# Altium footprint library Switches&Relays.PcbLib: 8 footprints
Each footprint in its own frame and in the unit in brackets; x right, y up, seen from the top. Pads: shape width x height; smd on the part's side, far side on the other; paste and mask are expansions set on the pad; w line width, h text height; cw(c..) or ccw(c..) is an arc to the next point about the centre after c.
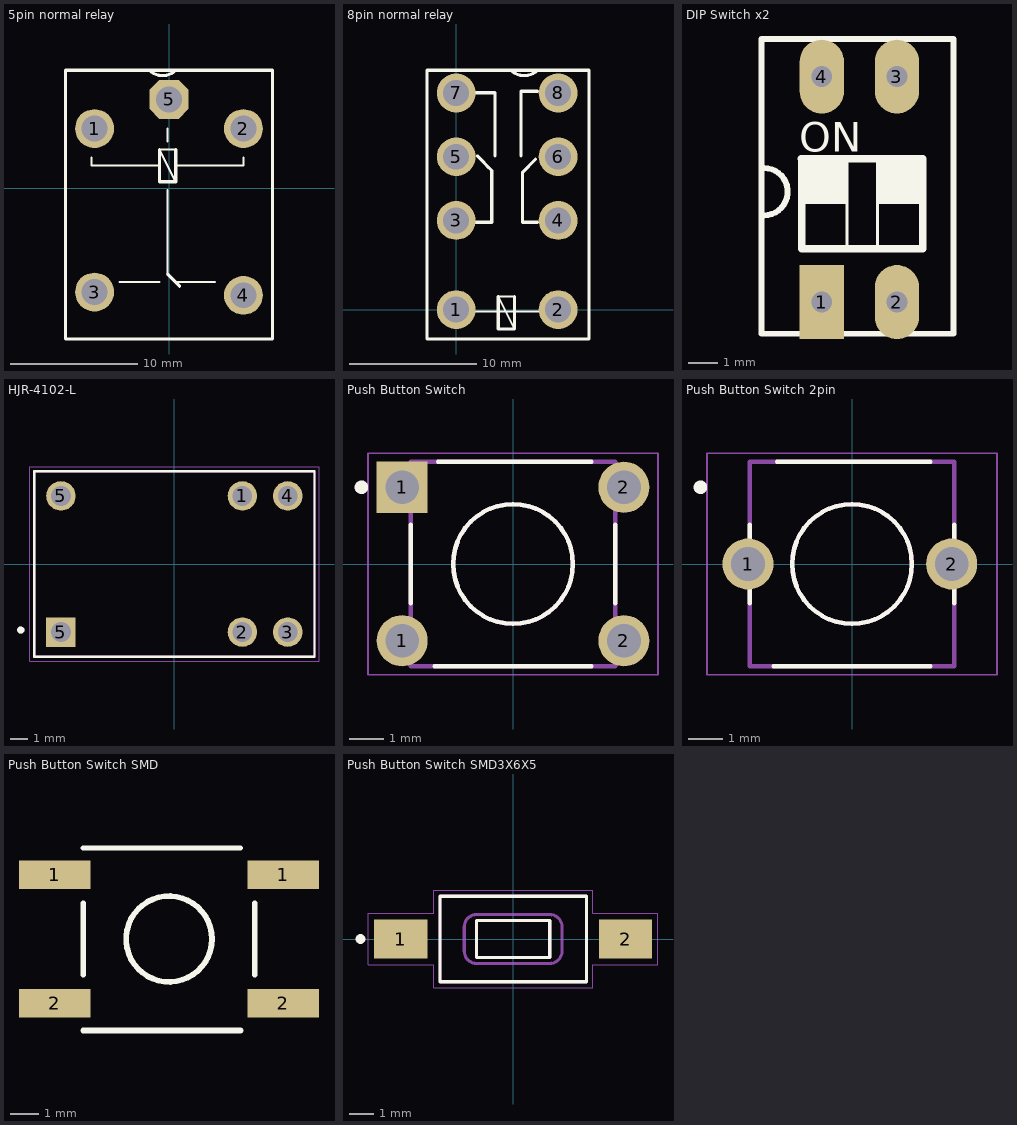
[diagram p0: the footprints below, top view; thin cyan lines are the x and y axes]

## 5pin normal relay [mil]
pads (5):
  round 120 hole 80: 1(-230.5,184.5) 2(229.5,184.5) 3(-230.5,-320.5) 4(229.5,-330.5)
  oct 120x120 hole 80: 5(-0.5,274.5)
Top Overlay:
  lines w6: -240,95.09 -240,70.09 -30,70.09 ; -153,-289.91 -30,-289.91 ; -5,-264.91 -5,-4.91 ; -5,145.09 -5,185.09 ; 20,-289.91 142,-289.91 ; 20,20.09 -30,120.09 20,120.09 ; 20,70.09 230,70.09 230,95.09
  lines w10: -60.5,364.5 ccw(c-20.5,404.5) 19.5,364.5 ; -30,120.09 -30,70.09 -30,20.09 20,20.09 20,70.09 20,120.09 ; -5,-264.91 20,-289.91 32,-302.91 ; -320.5,-465.5 -320.5,364.5 319.5,364.5 319.5,-465.5 -320.5,-465.5
3D body: height 669.29, standoff 78.74, extent -314.96,-472.44 314.96,354.33
3D body: height 78.74, standoff -39.37, extent -39.55,235.22 38.87,313.8
3D body: height 78.74, standoff -39.37, extent 190.45,145.22 268.88,223.8
3D body: height 78.74, standoff -39.37, extent -269.55,145.22 -191.12,223.8
3D body: height 78.74, standoff -39.37, extent 190.45,-369.79 268.88,-291.2
3D body: height 78.74, standoff -39.37, extent -269.55,-359.79 -191.12,-281.2

## 8pin normal relay [mil]
pads (8):
  round 120 hole 80: 1(0,0) 2(314.96,0) 3(0,275.59) 4(314.96,275.59) 5(0,472.44) 6(314.96,472.44) 7(0,669.29) 8(314.96,669.29)
Top Overlay:
  lines w6: 55,-5 265,-5 ; 180,-59.91 130,40.09 180,40.09
  lines w10: 55,270 85,270 110,270 110,430 ; 60,670 120,670 120,475 ; 65,475 110,430 ; 95,445 110,430 ; 130,40.09 130,-9.91 130,-59.91 180,-59.91 180,-9.91 180,40.09 ; 170,739.5 ccw(c210,779.5) 250,739.5 ; 200,475 200,675 250,675 ; 245,465 205,425 205,270 250,270 ; -90,-90.5 -90,739.5 410,739.5 410,-90.5 -90,-90.5
3D body: height 669.29, standoff 78.74, extent -84.96,-88.38 405,738.39
3D body: height 78.74, standoff -39.37, extent -39.55,-39.79 38.88,38.8
3D body: height 78.74, standoff -39.37, extent 275.41,-39.79 353.84,38.8
3D body: height 78.74, standoff -39.37, extent -39.55,235.8 38.88,314.39
3D body: height 78.74, standoff -39.37, extent 275.41,235.8 353.84,314.39
3D body: height 78.74, standoff -39.37, extent -39.55,432.65 38.88,511.24
3D body: height 78.74, standoff -39.37, extent 275.41,432.65 353.84,511.24
3D body: height 78.74, standoff -39.37, extent -39.55,629.5 38.88,708.09
3D body: height 78.74, standoff -39.37, extent 275.41,629.5 353.84,708.09

## DIP Switch x2 [mm]
pads (4):
  rect 1.5x2.5 hole 0.7: 1(56.388,18.034)
  oval 1.5x2.5 hole 0.7: 2(58.928,18.034) 3(58.928,25.654) 4(56.388,25.654)
Top Overlay:
  region: 55.699,22.878 55.699,21.353 57.255,21.353 57.255,22.878
  region: 58.249,22.878 58.249,21.353 59.805,21.353 59.805,22.878
  lines w0.1: 57.245,19.828 57.245,22.848 ; 58.265,19.828 58.265,22.848
  lines w0.2: 54.435,20.963 ccw(c54.435,21.763) 54.435,22.564 ; 54.355,16.961 60.844,16.961 60.844,26.924 54.355,26.924 54.355,16.961
  lines w0.25: 55.715,19.828 55.715,22.848
  lines w0.254: 55.699,22.878 59.805,22.878 59.805,19.828 55.715,19.828
  text "ON" at 55.626,23.114 h1
3D body "DS1040-02 (DIP_switch).stp": height 6.8, standoff -3.85, extent 54.388,16.897 60.928,26.797

## HJR-4102-L [mm]
pads (6):
  round 1.65 hole 1.1: 1(3.81,3.81) 2(3.81,-3.81) 3(6.35,-3.81) 4(6.35,3.81) 5(-6.35,3.81)
  rect 1.65x1.65 hole 1.1: 5(-6.35,-3.81)
Top Overlay:
  circle w0.2: c-8.6,-3.7 r0.1
  lines w0.127: -7.85,-5.2 -7.85,5.2 7.85,5.2 7.85,-5.2 -7.85,-5.2
Mechanical 13:
  circle w0.2: c-8.6,-3.7 r0.1
  lines w0.127: -7.85,-5.2 -7.85,5.2 7.85,5.2 7.85,-5.2 -7.85,-5.2
Mechanical 15:
  lines w0.05: -8.1,-5.45 -8.1,5.45 8.1,5.45 8.1,-5.45 -8.1,-5.45
3D body "HJR-4102-L-05V--3DModel-STEP-56544.STEP": height 11.7, standoff -3.4, extent -7.85,-5.2 7.85,5.2

## Push Button Switch [mm]
pads (4):
  round 1.498 hole 0.99: 1(-3.25,-2.25) 2(3.25,-2.25) 2(3.25,2.25)
  rect 1.498x1.498 hole 0.99: 1(-3.25,2.25)
Top Overlay:
  circle w0.127: c0,0 r1.755
  circle w0.2: c-4.445,2.25 r0.1
  lines w0.127: -2.995,-1.15 -2.995,1.15 ; -2.3,-2.995 2.3,-2.995 ; -2.2,2.995 2.3,2.995 ; 3,-1.15 3,1.15
Mechanical 13:
  circle w0.127: c0,0 r1.755
  lines w0.127: -2.995,-2.995 -2.995,2.995 2.995,2.995 2.995,-2.995 -2.995,-2.995
Mechanical 15:
  lines w0.05: -4.25,-3.25 -4.25,3.25 4.25,3.25 4.25,-3.25 -4.25,-3.25
3D body "1825910-6--3DModel-STEP-1.STEP": height 5.01, standoff -3.51, extent -4.025,-2.868 3.773,3.122

## Push Button Switch 2pin [mm]
pads (2):
  round 1.498 hole 0.99: 1(-3.048,0) 2(2.921,0)
Top Overlay:
  circle w0.2: c-4.445,2.25 r0.1
  circle w0.127: c0,0 r1.755
  lines w0.127: -2.995,-1.15 -2.995,1.15 ; -2.3,-2.995 2.3,-2.995 ; -2.2,2.995 2.3,2.995 ; 3,-1.15 3,1.15
Mechanical 13:
  circle w0.127: c0,0 r1.755
  lines w0.127: -2.995,-2.995 2.995,-2.995 2.995,2.995 -2.995,2.995 -2.995,-2.995
Mechanical 15:
  lines w0.05: -4.25,-3.25 4.25,-3.25 4.25,3.25 -4.25,3.25 -4.25,-3.25

## Push Button Switch SMD [mm]
pads (4):
  rect 2.5x1 smd: 1(24.479,29.555) 1(32.463,29.555) 2(24.479,25.055) 2(32.463,25.055)
Top Overlay:
  circle w0.2: c28.471,27.305 r1.5
  lines w0.178: 25.474,30.48 30.974,30.48
  lines w0.2: 25.471,26.055 25.471,28.555 ; 25.474,24.105 30.974,24.105 ; 31.471,26.055 31.471,28.555
3D body "SW3dPS-switch.STEP": height 5, standoff 0, extent 23.971,24.305 32.971,30.305

## Push Button Switch SMD3X6X5 [mm]
pads (2):
  rect 2.18x1.6 smd: 1(-4.6,0) 2(4.6,0)
Top Overlay:
  circle w0.2: c-6.25,0 r0.1
  lines w0.127: -3,-1.75 3,-1.75 3,1.75 -3,1.75 -3,-1.75 ; -1.5,-0.75 1.5,-0.75 1.5,0.75 -1.5,0.75 -1.5,-0.75
Mechanical 13:
  circle w0.2: c-4.6,0 r0.1
  lines w0.127: -3,-1.75 3,-1.75 3,1.75 -3,1.75 -3,-1.75 ; -2,-0.5 ccw(c-1.5,-0.5) -1.5,-1 1.5,-1 ccw(c1.5,-0.5) 2,-0.5 2,0.5 ccw(c1.5,0.5) 1.5,1 -1.5,1 ccw(c-1.5,0.5) -2,0.5 -2,-0.5 ; -1.5,-0.75 1.5,-0.75 1.5,0.75 -1.5,0.75 -1.5,-0.75
Mechanical 15:
  lines w0.05: -5.93,-1.05 -5.93,1.05 -3.25,1.05 -3.25,2 3.25,2 3.25,1.05 5.93,1.05 5.93,-1.05 3.25,-1.05 3.25,-2 -3.25,-2 -3.25,-1.05 -5.93,-1.05
3D body "1437566-4.stp": height 4.5, standoff 0.09, extent -5.111,-1.595 4.858,1.905